# EAGLE library part XC95108P84 (library custom-2002)
CPLD Xilinx 69 pines IO (6 globals)
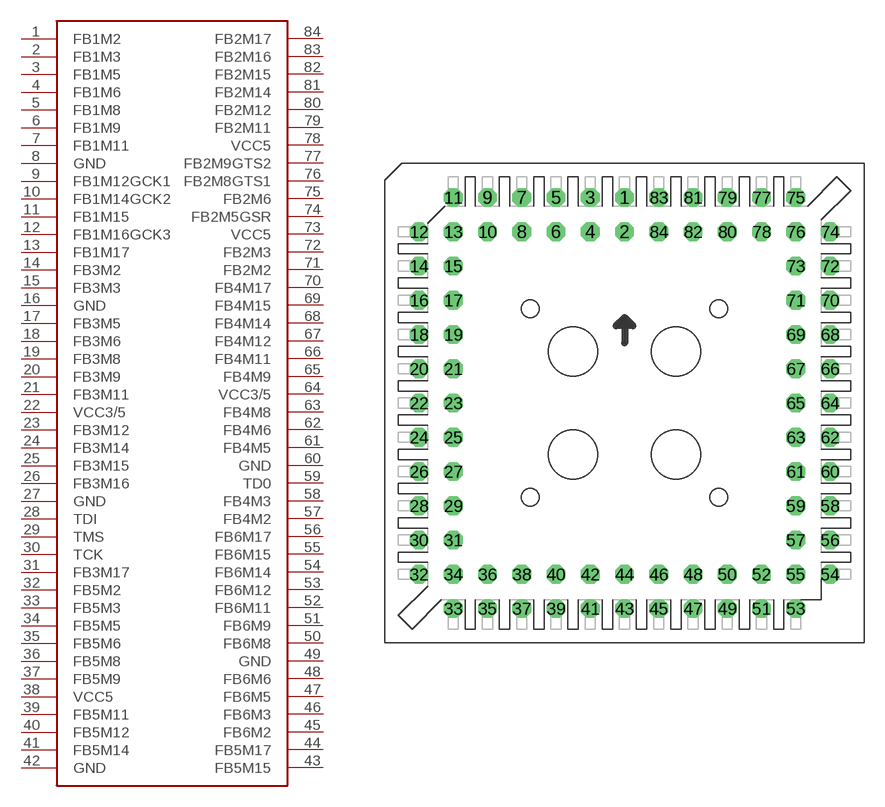
[diagram p12: symbol with the pads of PLCC84; footprint PLCC84]

Designator prefix -

## XC95108P84  [PLCC84]
1  FB1M2
2  FB1M3
3  FB1M5
4  FB1M6
5  FB1M8
6  FB1M9
7  FB1M11
8  GND
9  FB1M12GCK1
10  FB1M14GCK2
11  FB1M15
12  FB1M16GCK3
13  FB1M17
14  FB3M2
15  FB3M3
16  GND
17  FB3M5
18  FB3M6
19  FB3M8
20  FB3M9
21  FB3M11
22  VCC3/5
23  FB3M12
24  FB3M14
25  FB3M15
26  FB3M16
27  GND
28  TDI
29  TMS
30  TCK
31  FB3M17
32  FB5M2
33  FB5M3
34  FB5M5
35  FB5M6
36  FB5M8
37  FB5M9
38  VCC5
39  FB5M11
40  FB5M12
41  FB5M14
42  GND
43  FB5M15
44  FB5M17
45  FB6M2
46  FB6M3
47  FB6M5
48  FB6M6
49  GND
50  FB6M8
51  FB6M9
52  FB6M11
53  FB6M12
54  FB6M14
55  FB6M15
56  FB6M17
57  FB4M2
58  FB4M3
59  TD0
60  GND
61  FB4M5
62  FB4M6
63  FB4M8
64  VCC3/5
65  FB4M9
66  FB4M11
67  FB4M12
68  FB4M14
69  FB4M15
70  FB4M17
71  FB2M2
72  FB2M3
73  VCC5
74  FB2M5GSR
75  FB2M6
76  FB2M8GTS1
77  FB2M9GTS2
78  VCC5
79  FB2M11
80  FB2M12
81  FB2M14
82  FB2M15
83  FB2M16
84  FB2M17

## Footprint PLCC84 (pad centres in mm)
PLCC84 pines
drill 0.813 pad 1.397 octagon: 1 0,15.24; 2 0,12.7; 3 -2.54,15.24; 4 -2.54,12.7; 5 -5.08,15.24; 6 -5.08,12.7; 7 -7.62,15.24; 8 -7.62,12.7; 9 -10.16,15.24; 10 -10.16,12.7; 11 -12.7,15.24; 12 -15.24,12.7; 13 -12.7,12.7; 14 -15.24,10.16; 15 -12.7,10.16; 16 -15.24,7.62; 17 -12.7,7.62; 18 -15.24,5.08; 19 -12.7,5.08; 20 -15.24,2.54; 21 -12.7,2.54; 22 -15.24,0; 23 -12.7,0; 24 -15.24,-2.54; 25 -12.7,-2.54; 26 -15.24,-5.08; 27 -12.7,-5.08; 28 -15.24,-7.62; 29 -12.7,-7.62; 30 -15.24,-10.16; 31 -12.7,-10.16; 32 -15.24,-12.7; 33 -12.7,-15.24; 34 -12.7,-12.7; 35 -10.16,-15.24; 36 -10.16,-12.7; 37 -7.62,-15.24; 38 -7.62,-12.7; 39 -5.08,-15.24; 40 -5.08,-12.7; 41 -2.54,-15.24; 42 -2.54,-12.7; 43 0,-15.24; 44 0,-12.7; 45 2.54,-15.24; 46 2.54,-12.7; 47 5.08,-15.24; 48 5.08,-12.7; 49 7.62,-15.24; 50 7.62,-12.7; 51 10.16,-15.24; 52 10.16,-12.7; 53 12.7,-15.24; 54 15.24,-12.7; 55 12.7,-12.7; 56 15.24,-10.16; 57 12.7,-10.16; 58 15.24,-7.62; 59 12.7,-7.62; 60 15.24,-5.08; 61 12.7,-5.08; 62 15.24,-2.54; 63 12.7,-2.54; 64 15.24,0; 65 12.7,0; 66 15.24,2.54; 67 12.7,2.54; 68 15.24,5.08; 69 12.7,5.08; 70 15.24,7.62; 71 12.7,7.62; 72 15.24,10.16; 73 12.7,10.16; 74 15.24,12.7; 75 12.7,15.24; 76 12.7,12.7; 77 10.16,15.24; 78 10.16,12.7; 79 7.62,15.24; 80 7.62,12.7; 81 5.08,15.24; 82 5.08,12.7; 83 2.54,15.24; 84 2.54,12.7